# Altium footprint library SMD-2.PcbLib: 1 footprints
Each footprint in its own frame and in the unit in brackets; x right, y up, seen from the top. Pads: shape width x height; smd on the part's side, far side on the other; paste and mask are expansions set on the pad; w line width, h text height; cw(c..) or ccw(c..) is an arc to the next point about the centre after c.
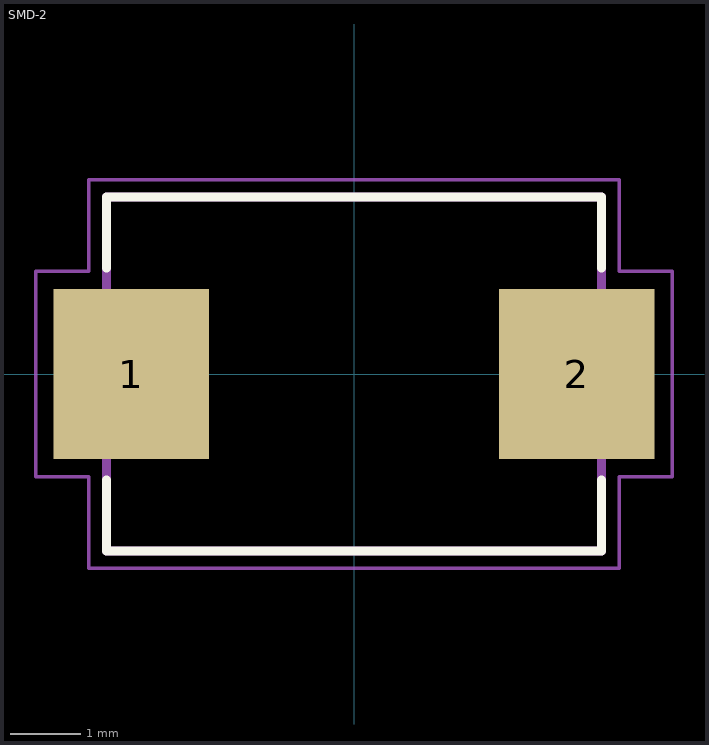
[diagram p0: the footprint, top view; thin cyan lines are the x and y axes]

## SMD-2 [mm]
pads (2):
  rect 2.2x2.4 smd: 1(-3.15,0) 2(3.15,0)
Top Overlay:
  lines w0.127: -3.5,-1.5 -3.5,-2.5 3.5,-2.5 3.5,-1.5 ; -3.5,1.5 -3.5,2.5 3.5,2.5 3.5,1.5
Mechanical 4:
  lines w0.127: -3.5,-2.5 -3.5,2.5 ; -3.5,-2.5 3.5,-2.5 ; -3.5,-2.5 -3.5,2.5 ; -3.5,-2.5 3.5,-2.5 ; -3.5,2.5 3.5,2.5 ; -3.5,2.5 3.5,2.5 ; 3.5,-2.5 3.5,2.5 ; 3.5,-2.5 3.5,2.5
Mechanical 15:
  lines w0.05: -4.5,-1.45 -4.5,1.45 -3.75,1.45 -3.75,2.75 3.75,2.75 3.75,1.45 4.5,1.45 4.5,-1.45 3.75,-1.45 3.75,-2.75 -3.75,-2.75 -3.75,-1.45 -4.5,-1.45